# Altium footprint library aiskylab-03Indu.PcbLib: 15 footprints
Each footprint in its own frame and in the unit in brackets; x right, y up, seen from the top. Pads: shape width x height; smd on the part's side, far side on the other; paste and mask are expansions set on the pad; w line width, h text height; cw(c..) or ccw(c..) is an arc to the next point about the centre after c.
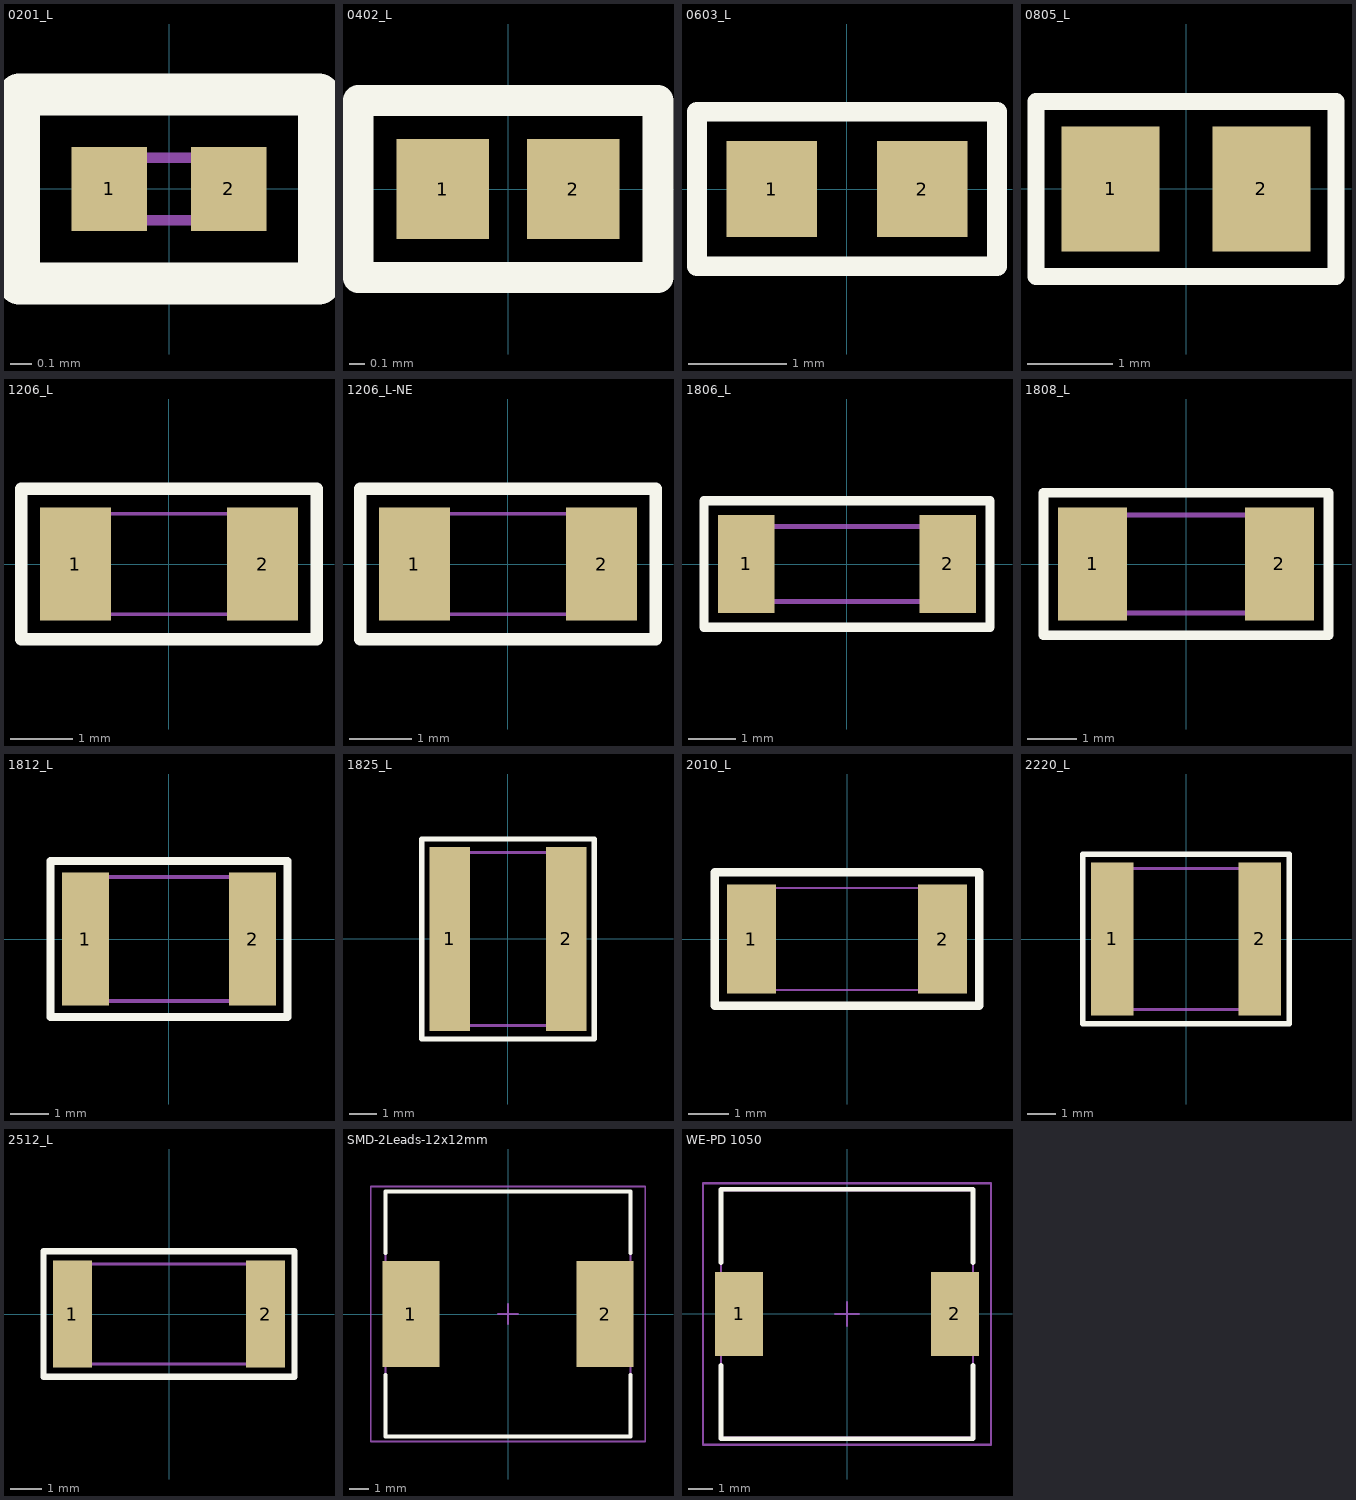
[diagram p0: the footprints below, top view; thin cyan lines are the x and y axes]

## 0201_L [mm]
pads (2):
  rect 0.36x0.4 smd mask+0.051: 1(-0.285,0) 2(0.285,0)
Top Overlay:
  lines w0.2: -0.715,-0.45 -0.715,0.45 0.715,0.45 0.715,-0.45 -0.715,-0.45
Top Designator:
  text ".Designator" at -7.618,-0.508 h1.52
Top 3D Body:
  lines w0.05: -0.3,-0.15 -0.3,0.15 0.3,0.15 0.3,-0.15 -0.3,-0.15
3D body "L0201.STEP": height 0.28, standoff 0, extent -0.3,-0.15 0.3,0.15

## 0402_L [mm]
pads (2):
  rect 0.6x0.65 smd mask+0.051: 1(-0.425,0) 2(0.425,0)
Top Overlay:
  lines w0.2: -0.975,-0.575 -0.975,0.575 0.975,0.575 0.975,-0.575 -0.975,-0.575
Top Designator:
  text ".Designator" at -7.618,-0.508 h1.52
3D body "L0402.STEP": height 0.36, standoff -0.01, extent -0.49,-0.262 0.515,0.263

## 0603_L [mm]
pads (2):
  rect 0.93x0.98 smd: 1(-0.77,0) 2(0.77,0)
Top Overlay:
  lines w0.2: -1.535,-0.79 1.535,-0.79 1.535,0.79 -1.535,0.79 -1.535,-0.79
Top Designator:
  text ".Designator" at -7.618,-0.508 h1.52
3D body "L0603.STEP": height 0.46, standoff -0.01, extent -0.802,-0.412 0.802,0.413

## 0805_L [mm]
pads (2):
  rect 1.16x1.47 smd: 1(-0.89,0) 2(0.89,0)
Top Overlay:
  lines w0.2: -1.77,-1.035 1.77,-1.035 1.77,1.035 -1.77,1.035 -1.77,-1.035
Top Designator:
  text ".Designator" at -7.618,-0.508 h1.52
3D body "L0805.STEP": height 0.6, standoff -0.02, extent -0.998,-0.637 1.005,0.638

## 1206_L [mm]
pads (2):
  rect 1.13x1.8 smd: 1(-1.49,0) 2(1.49,0)
Top Overlay:
  lines w0.2: -2.355,-1.2 2.355,-1.2 2.355,1.2 -2.355,1.2 -2.355,-1.2
Top Designator:
  text ".Designator" at -7.618,-0.508 h1.52
Top 3D Body:
  lines w0.05: -1.6,-0.8 1.6,-0.8 1.6,0.8 -1.6,0.8 -1.6,-0.8
3D body "1206-vrt.stp": height 1.6, standoff 0, extent -1.6,-0.8 1.6,0.8

## 1206_L-NE [mm] "线圈式"
pads (2):
  rect 1.13x1.8 smd: 1(-1.49,0) 2(1.49,0)
Top Overlay:
  lines w0.2: -2.355,-1.2 2.355,-1.2 2.355,1.2 -2.355,1.2 -2.355,-1.2
Top Designator:
  text ".Designator" at -7.618,-0.508 h1.52
Top 3D Body:
  lines w0.05: -1.6,-0.8 1.6,-0.8 1.6,0.8 -1.6,0.8 -1.6,-0.8
3D body "1206-322318.stp": height 1.8, standoff -0.02, extent -1.6,-0.8 1.6,0.8

## 1806_L [mm]
pads (2):
  rect 1.2x2.1 smd: 1(-2.15,0) 2(2.15,0)
Top Overlay:
  lines w0.2: -3.05,-1.35 -3.05,1.35 3.05,1.35 3.05,-1.35 -3.05,-1.35
Top Designator:
  text ".Designator" at -7.618,-0.508 h1.52
Top 3D Body:
  lines w0.1: -2.25,-0.8 -2.25,0.8 2.25,0.8 2.25,-0.8 -2.25,-0.8

## 1808_L [mm]
pads (2):
  rect 1.4x2.3 smd: 1(-1.9,0) 2(1.9,0)
Top Overlay:
  lines w0.2: -2.9,-1.45 -2.9,1.45 2.9,1.45 2.9,-1.45 -2.9,-1.45
Top Designator:
  text ".Designator" at -7.618,-0.508 h1.52
Top 3D Body:
  lines w0.1: -2.25,-1 -2.25,1 2.25,1 2.25,-1 -2.25,-1

## 1812_L [mm]
pads (2):
  rect 1.2x3.42 smd: 1(-2.15,0) 2(2.15,0)
Top Overlay:
  lines w0.2: -3.05,-2.01 -3.05,2.01 3.05,2.01 3.05,-2.01 -3.05,-2.01
Top Designator:
  text ".Designator" at -7.618,-0.508 h1.52
Top 3D Body:
  lines w0.1: -2.25,-1.6 2.25,-1.6 2.25,1.6 -2.25,1.6 -2.25,-1.6
3D body "1812-vrt.stp": height 3.2, standoff 0, extent -2.25,-1.6 2.25,1.6

## 1825_L [mm]
pads (2):
  rect 1.5x6.81 smd: 1(-2.15,0) 2(2.15,0)
Top Overlay:
  lines w0.2: -3.2,-3.705 3.2,-3.705 3.2,3.705 -3.2,3.705 -3.2,-3.705
Top Designator:
  text ".Designator" at -7.618,-0.508 h1.52
Top 3D Body:
  lines w0.1: -2.3,-3.2 2.3,-3.2 2.3,3.2 -2.3,3.2 -2.3,-3.2

## 2010_L [mm]
pads (2):
  rect 1.2x2.67 smd: 1(-2.34,0) 2(2.34,0)
Top Overlay:
  lines w0.2: -3.24,-1.635 -3.24,1.635 3.24,1.635 3.24,-1.635 -3.24,-1.635
Top Designator:
  text ".Designator" at -7.618,-0.508 h1.52
Top 3D Body:
  lines w0.05: -2.5,-1.25 2.5,-1.25 2.5,1.25 -2.5,1.25 -2.5,-1.25

## 2220_L [mm]
pads (2):
  rect 1.5x5.42 smd: 1(-2.62,0) 2(2.62,0)
Top Overlay:
  lines w0.2: -3.67,-3.01 -3.67,3.01 3.67,3.01 3.67,-3.01 -3.67,-3.01
Top Designator:
  text ".Designator" at -7.618,-0.508 h1.52
Top 3D Body:
  lines w0.1: -2.9,-2.5 2.9,-2.5 2.9,2.5 -2.9,2.5 -2.9,-2.5

## 2512_L [mm]
pads (2):
  rect 1.25x3.42 smd: 1(-3.1,0) 2(3.1,0)
Top Overlay:
  lines w0.2: -4.025,-2.01 -4.025,2.01 4.025,2.01 4.025,-2.01 -4.025,-2.01
Top Designator:
  text ".Designator" at -7.618,-0.508 h1.52
Top 3D Body:
  lines w0.1: -3.15,-1.6 3.15,-1.6 3.15,1.6 -3.15,1.6 -3.15,-1.6

## SMD-2Leads-12x12mm [mm] "SMD Inductor, 2-Leads, Body 12.0 x 12.0 mm"
height 4.5
pads (2):
  rect 2.9x5.4 smd: 1(-4.95,0) 2(4.95,0)
Top Overlay:
  lines w0.2: -6.25,-3.1 -6.25,-6.25 6.25,-6.25 6.25,-3.1 ; -6.25,3.1 -6.25,6.25 6.25,6.25 6.25,3.1
Top Designator:
  text ".Designator" at -7.618,-0.508 h1.52
Top Assembly:
  lines w0.1: -7,-6.5 -7,6.5 7,6.5 7,-6.5 -7,-6.5
Top Component Center:
  lines w0.1: -0.5,0 0.5,0 ; 0,-0.5 0,0.5
Top Component Outline:
  lines w0.1: -6.25,-6.25 -6.25,6.25 6.25,6.25 6.25,-6.25 -6.25,-6.25
3D body "7447715001.stp": height 4.49, standoff -0.01, extent -6,-6 6,6

## WE-PD 1050 [mm] "SMD Inductor, 2-Leads, Body 10,0x10,0mm"
height 5
pads (2):
  rect 2x3.5 smd: 1(-4.5,0) 2(4.5,0)
Top Overlay:
  lines w0.2: -5.25,-2.15 -5.25,-5.2 5.25,-5.2 5.25,-2.15 ; -5.25,2.15 -5.25,5.2 5.25,5.2 5.25,2.15
Top Assembly:
  lines w0.1: -6,-5.45 6,-5.45 6,5.45 -6,5.45 -6,-5.45
Top Component Center:
  lines w0.1: -0.5,0 0.5,0 ; 0,-0.5 0,0.5
Top Component Outline:
  lines w0.1: -5.25,-5.15 5.25,-5.15 5.25,5.15 -5.25,5.15 -5.25,-5.15
3D body "7447714xx.stp": height 4.75, standoff -0.05, extent -5,-5 5,5